# Altium footprint library 2.42-WCSP封装.PcbLib: 3 footprints
Each footprint in its own frame and in the unit in brackets; x right, y up, seen from the top. Pads: shape width x height; smd on the part's side, far side on the other; paste and mask are expansions set on the pad; w line width, h text height; cw(c..) or ccw(c..) is an arc to the next point about the centre after c.
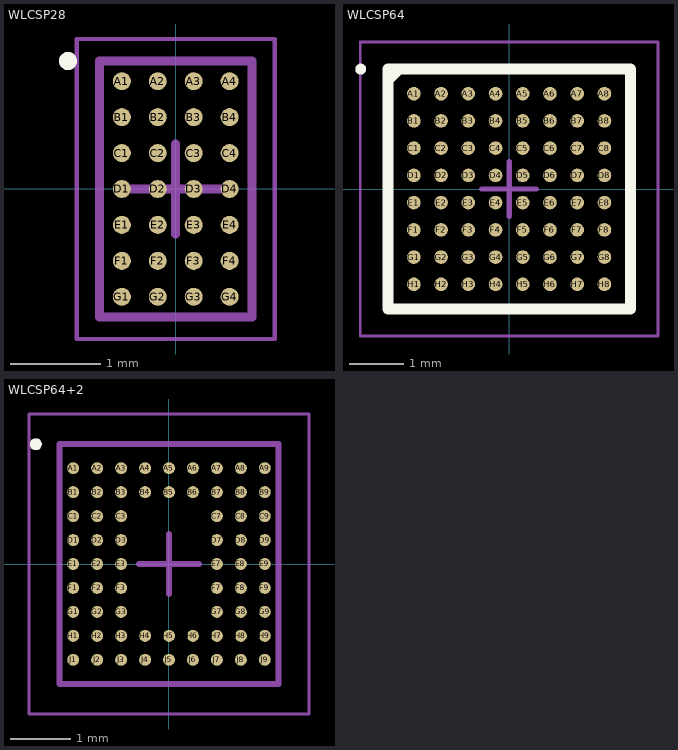
[diagram p0: the footprints below, top view; thin cyan lines are the x and y axes]

## WLCSP28 [mm] "BGA, 28-Leads, Body 2.9x1.7mm, Pitch 0.4mm      [ PCBѧϰȺ514746572 ]"
height 0.64
pads (28):
  round 0.2 smd: A1(-0.6,1.2) A2(-0.2,1.2) A3(0.2,1.2) A4(0.6,1.2) B1(-0.6,0.8) B2(-0.2,0.8) B3(0.2,0.8) B4(0.6,0.8) C1(-0.6,0.4) C2(-0.2,0.4) C3(0.2,0.4) C4(0.6,0.4) D1(-0.6,0) D2(-0.2,0) D3(0.2,0) D4(0.6,0) E1(-0.6,-0.4) E2(-0.2,-0.4) E3(0.2,-0.4) E4(0.6,-0.4) F1(-0.6,-0.8) F2(-0.2,-0.8) F3(0.2,-0.8) F4(0.6,-0.8) G1(-0.6,-1.2) G2(-0.2,-1.2) G3(0.2,-1.2) G4(0.6,-1.2)
Top Overlay:
  circle w0.1: c-1.2,1.425 r0.05
Mechanical 13:
  lines w0.1: -0.85,-1.425 -0.85,1.425 0.85,1.425 0.85,-1.425 -0.85,-1.425
Mechanical 15:
  lines w0.05: -1.1,-1.67 -1.1,1.67 1.1,1.67 1.1,-1.67 -1.1,-1.67
  lines w0.1: -0.5,0 0.5,0 ; 0,-0.5 0,0.5
3D body: height 0.64, standoff 0, extent -0.85,-1.425 0.85,1.425

## WLCSP64 [mm] "BGA, 64-Leads, Body 4.395x4.466mm, Pitch 0.5mm      [ PCBѧϰȺ514746572 ]"
height 0.64
pads (64):
  round 0.25 smd: A1(-1.75,1.75) A2(-1.25,1.75) A3(-0.75,1.75) A4(-0.25,1.75) A5(0.25,1.75) A6(0.75,1.75) A7(1.25,1.75) A8(1.75,1.75) B1(-1.75,1.25) B2(-1.25,1.25) B3(-0.75,1.25) B4(-0.25,1.25) B5(0.25,1.25) B6(0.75,1.25) B7(1.25,1.25) B8(1.75,1.25) C1(-1.75,0.75) C2(-1.25,0.75) C3(-0.75,0.75) C4(-0.25,0.75) C5(0.25,0.75) C6(0.75,0.75) C7(1.25,0.75) C8(1.75,0.75) D1(-1.75,0.25) D2(-1.25,0.25) D3(-0.75,0.25) D4(-0.25,0.25) D5(0.25,0.25) D6(0.75,0.25) D7(1.25,0.25) D8(1.75,0.25) E1(-1.75,-0.25) E2(-1.25,-0.25) E3(-0.75,-0.25) E4(-0.25,-0.25) E5(0.25,-0.25) E6(0.75,-0.25) E7(1.25,-0.25) E8(1.75,-0.25) F1(-1.75,-0.75) F2(-1.25,-0.75) F3(-0.75,-0.75) F4(-0.25,-0.75) F5(0.25,-0.75) F6(0.75,-0.75) F7(1.25,-0.75) F8(1.75,-0.75) G1(-1.75,-1.25) G2(-1.25,-1.25) G3(-0.75,-1.25) G4(-0.25,-1.25) G5(0.25,-1.25) G6(0.75,-1.25) G7(1.25,-1.25) G8(1.75,-1.25) H1(-1.75,-1.75) H2(-1.25,-1.75) H3(-0.75,-1.75) H4(-0.25,-1.75) H5(0.25,-1.75) H6(0.75,-1.75) H7(1.25,-1.75) H8(1.75,-1.75)
Top Overlay:
  circle w0.1: c-2.725,2.2 r0.05
  region: -1.888,2.2 -2.225,1.863 -2.225,2.2
  lines w0.2: -2.225,-2.2 2.225,-2.2 2.225,2.2 -2.225,2.2 -2.225,-2.2
Mechanical 13:
  lines w0.1: -2.235,-2.2 2.235,-2.2 2.235,2.2 -2.235,2.2 -2.235,-2.2
Mechanical 15:
  lines w0.05: -2.733,-2.697 2.733,-2.697 2.733,2.698 -2.733,2.698 -2.733,-2.697
  lines w0.1: -0.5,0 0.5,0 ; 0,-0.5 0,0.5
3D body: height 0.64, standoff 0, extent -2.235,-2.2 2.235,2.2

## WLCSP64+2 [mm] "BGA, 64-Leads, Body 4x4mm, Pitch 0.4mm      [ PCBѧϰȺ514746572 ]"
height 0.62
pads (66):
  round 0.2 smd: A1(-1.6,1.6) A2(-1.2,1.6) A3(-0.8,1.6) A4(-0.4,1.6) A5(0,1.6) A6(0.4,1.6) A7(0.8,1.6) A8(1.2,1.6) A9(1.6,1.6) B1(-1.6,1.2) B2(-1.2,1.2) B3(-0.8,1.2) B4(-0.4,1.2) B5(0,1.2) B6(0.4,1.2) B7(0.8,1.2) B8(1.2,1.2) B9(1.6,1.2) C1(-1.6,0.8) C2(-1.2,0.8) C3(-0.8,0.8) C7(0.8,0.8) C8(1.2,0.8) C9(1.6,0.8) D1(-1.6,0.4) D2(-1.2,0.4) D3(-0.8,0.4) D7(0.8,0.4) D8(1.2,0.4) D9(1.6,0.4) E1(-1.6,0) E2(-1.2,0) E3(-0.8,0) E7(0.8,0) E8(1.2,0) E9(1.6,0) F1(-1.6,-0.4) F2(-1.2,-0.4) F3(-0.8,-0.4) F7(0.8,-0.4) F8(1.2,-0.4) F9(1.6,-0.4) G1(-1.6,-0.8) G2(-1.2,-0.8) G3(-0.8,-0.8) G7(0.8,-0.8) G8(1.2,-0.8) G9(1.6,-0.8) H1(-1.6,-1.2) H2(-1.2,-1.2) H3(-0.8,-1.2) H4(-0.4,-1.2) H5(0,-1.2) H6(0.4,-1.2) H7(0.8,-1.2) H8(1.2,-1.2) H9(1.6,-1.2) J1(-1.6,-1.6) J2(-1.2,-1.6) J3(-0.8,-1.6) J4(-0.4,-1.6) J5(0,-1.6) J6(0.4,-1.6) J7(0.8,-1.6) J8(1.2,-1.6) J9(1.6,-1.6)
Top Overlay:
  circle w0.1: c-2.225,2 r0.05
Mechanical 13:
  lines w0.1: -1.825,-2 -1.825,2 1.825,2 1.825,-2 -1.825,-2
Mechanical 15:
  lines w0.05: -2.335,-2.505 -2.335,2.505 2.335,2.505 2.335,-2.505 -2.335,-2.505
  lines w0.1: -0.5,0 0.5,0 ; 0,-0.5 0,0.5
3D body: height 0.62, standoff 0, extent -1.825,-2 1.825,2